# Altium footprint library KeebDeck.PcbLib: 1 footprints
Each footprint in its own frame and in the unit in brackets; x right, y up, seen from the top. Pads: shape width x height; smd on the part's side, far side on the other; paste and mask are expansions set on the pad; w line width, h text height; cw(c..) or ccw(c..) is an arc to the next point about the centre after c.
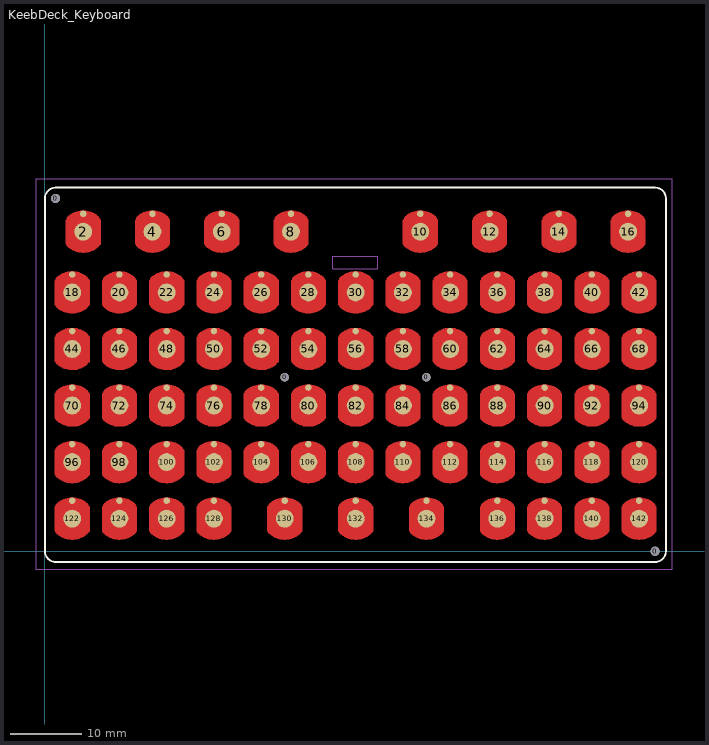
[diagram p0: the footprint, top view; thin cyan lines are the x and y axes]

## KeebDeck_Keyboard [mm]
height 4
pads (146):
  round 1.27 hole 1.27 unplated: 0(1.5,49.3) 0(85.25,0)
  round 1.2 hole 1.2: 0(33.5,24.31) 0(53.3,24.31)
  round 0.9 smd paste-2539.97: 1(5.349,47.151) 3(15.024,47.151) 5(24.699,47.151) 7(34.374,47.151) 9(52.449,47.151) 11(62.124,47.151) 13(71.799,47.151) 15(81.474,47.151) 17(3.809,38.661) 19(10.409,38.661) 21(17.009,38.661) 23(23.609,38.661) 25(30.209,38.661) 27(36.809,38.661) 29(43.409,38.661) 31(50.009,38.661) 33(56.609,38.661) 35(63.209,38.661) 37(69.809,38.661) 39(76.409,38.661) 41(83.009,38.661) 43(3.809,30.761) 45(10.409,30.761) 47(17.009,30.761) 49(23.609,30.761) 51(30.209,30.761) 53(36.809,30.761) 55(43.409,30.761) 57(50.009,30.761) 59(56.609,30.761) 61(63.209,30.761) 63(69.809,30.761) 65(76.409,30.761) 67(83.009,30.761) 69(3.809,22.861) 71(10.409,22.861) 73(17.009,22.861) 75(23.609,22.861) 77(30.209,22.861) 79(36.809,22.861) 81(43.409,22.861) 83(50.009,22.861) 85(56.609,22.861) 87(63.209,22.861) 89(69.809,22.861) 91(76.409,22.861) 93(83.009,22.861) 95(3.809,14.961) 97(10.409,14.961) 99(17.009,14.961) 101(23.609,14.961) 103(30.209,14.961) 105(36.809,14.961) 107(43.409,14.961) 109(50.009,14.961) 111(56.609,14.961) 113(63.209,14.961) 115(69.809,14.961) 117(76.409,14.961) 119(83.009,14.961) 121(3.809,7.061) 123(10.409,7.06) 125(17.009,7.06) 127(23.609,7.06) 129(33.509,7.06) 131(43.409,7.06) 133(53.309,7.06) 135(63.209,7.06) 137(69.809,7.06) 139(76.409,7.06) 141(83.009,7.06)
  round 2.5 smd paste-2539.97: 2(5.349,44.65) 4(15.024,44.65) 6(24.699,44.65) 8(34.374,44.65) 10(52.449,44.65) 12(62.124,44.65) 14(71.799,44.65) 16(81.474,44.65) 18(3.809,36.16) 20(10.409,36.16) 22(17.009,36.16) 24(23.609,36.16) 26(30.209,36.16) 28(36.809,36.16) 30(43.409,36.16) 32(50.009,36.16) 34(56.609,36.16) 36(63.209,36.16) 38(69.809,36.16) 40(76.409,36.16) 42(83.009,36.16) 44(3.809,28.26) 46(10.409,28.26) 48(17.009,28.26) 50(23.609,28.26) 52(30.209,28.26) 54(36.809,28.26) 56(43.409,28.26) 58(50.009,28.26) 60(56.609,28.26) 62(63.209,28.26) 64(69.809,28.26) 66(76.409,28.26) 68(83.009,28.26) 70(3.809,20.36) 72(10.409,20.36) 74(17.009,20.36) 76(23.609,20.36) 78(30.209,20.36) 80(36.809,20.36) 82(43.409,20.36) 84(50.009,20.36) 86(56.609,20.36) 88(63.209,20.36) 90(69.809,20.36) 92(76.409,20.36) 94(83.009,20.36) 96(3.809,12.46) 98(10.409,12.46) 100(17.009,12.46) 102(23.609,12.46) 104(30.209,12.46) 106(36.809,12.46) 108(43.409,12.46) 110(50.009,12.46) 112(56.609,12.46) 114(63.209,12.46) 116(69.809,12.46) 118(76.409,12.46) 120(83.009,12.46) 122(3.809,4.56) 124(10.409,4.559) 126(17.009,4.559) 128(23.609,4.559) 130(33.509,4.559) 132(43.409,4.559) 134(53.309,4.559) 136(63.209,4.559) 138(69.809,4.559) 140(76.409,4.559) 142(83.009,4.559)
Top Layer:
  pour cut-out: 2.925,42.95 2.925,46.275 3.575,46.925 7.175,46.925 7.775,46.325 7.775,42.9 7.5,42.625 3.125,42.625
  pour cut-out: 12.6,42.95 12.6,46.275 13.25,46.925 16.85,46.925 17.45,46.325 17.45,42.9 17.175,42.625 12.8,42.625
  pour cut-out: 22.275,42.95 22.275,46.275 22.925,46.925 26.525,46.925 27.125,46.325 27.125,42.9 26.85,42.625 22.475,42.625
  pour cut-out: 31.95,42.95 31.95,46.275 32.6,46.925 36.2,46.925 36.8,46.325 36.8,42.9 36.525,42.625 32.15,42.625
  pour cut-out: 50.025,42.95 50.025,46.275 50.675,46.925 54.275,46.925 54.875,46.325 54.875,42.9 54.6,42.625 50.225,42.625
  pour cut-out: 59.7,42.95 59.7,46.275 60.35,46.925 63.95,46.925 64.55,46.325 64.55,42.9 64.275,42.625 59.9,42.625
  pour cut-out: 69.375,42.95 69.375,46.275 70.025,46.925 73.625,46.925 74.225,46.325 74.225,42.9 73.95,42.625 69.575,42.625
  pour cut-out: 79.05,42.95 79.05,46.275 79.7,46.925 83.3,46.925 83.9,46.325 83.9,42.9 83.625,42.625 79.25,42.625
  pour cut-out: 1.385,34.46 1.385,37.785 2.035,38.435 5.635,38.435 6.235,37.835 6.235,34.41 5.96,34.135 1.585,34.135
  pour cut-out: 7.985,34.46 7.985,37.785 8.635,38.435 12.235,38.435 12.835,37.835 12.835,34.41 12.56,34.135 8.185,34.135
  pour cut-out: 14.585,34.46 14.585,37.785 15.235,38.435 18.835,38.435 19.435,37.835 19.435,34.41 19.16,34.135 14.785,34.135
  pour cut-out: 21.185,34.46 21.185,37.785 21.835,38.435 25.435,38.435 26.035,37.835 26.035,34.41 25.76,34.135 21.385,34.135
  pour cut-out: 27.785,34.46 27.785,37.785 28.435,38.435 32.035,38.435 32.635,37.835 32.635,34.41 32.36,34.135 27.985,34.135
  pour cut-out: 34.385,34.46 34.385,37.785 35.035,38.435 38.635,38.435 39.235,37.835 39.235,34.41 38.96,34.135 34.585,34.135
  pour cut-out: 40.985,34.46 40.985,37.785 41.635,38.435 45.235,38.435 45.835,37.835 45.835,34.41 45.56,34.135 41.185,34.135
  pour cut-out: 47.585,34.46 47.585,37.785 48.235,38.435 51.835,38.435 52.435,37.835 52.435,34.41 52.16,34.135 47.785,34.135
  pour cut-out: 54.185,34.46 54.185,37.785 54.835,38.435 58.435,38.435 59.035,37.835 59.035,34.41 58.76,34.135 54.385,34.135
  pour cut-out: 60.785,34.46 60.785,37.785 61.435,38.435 65.035,38.435 65.635,37.835 65.635,34.41 65.36,34.135 60.985,34.135
  pour cut-out: 67.385,34.46 67.385,37.785 68.035,38.435 71.635,38.435 72.235,37.835 72.235,34.41 71.96,34.135 67.585,34.135
  pour cut-out: 73.985,34.46 73.985,37.785 74.635,38.435 78.235,38.435 78.835,37.835 78.835,34.41 78.56,34.135 74.185,34.135
  pour cut-out: 80.585,34.46 80.585,37.785 81.235,38.435 84.835,38.435 85.435,37.835 85.435,34.41 85.16,34.135 80.785,34.135
  pour cut-out: 1.385,26.56 1.385,29.885 2.035,30.535 5.635,30.535 6.235,29.935 6.235,26.51 5.96,26.235 1.585,26.235
  pour cut-out: 7.985,26.56 7.985,29.885 8.635,30.535 12.235,30.535 12.835,29.935 12.835,26.51 12.56,26.235 8.185,26.235
  pour cut-out: 14.585,26.56 14.585,29.885 15.235,30.535 18.835,30.535 19.435,29.935 19.435,26.51 19.16,26.235 14.785,26.235
  pour cut-out: 21.185,26.56 21.185,29.885 21.835,30.535 25.435,30.535 26.035,29.935 26.035,26.51 25.76,26.235 21.385,26.235
  pour cut-out: 27.785,26.56 27.785,29.885 28.435,30.535 32.035,30.535 32.635,29.935 32.635,26.51 32.36,26.235 27.985,26.235
  pour cut-out: 34.385,26.56 34.385,29.885 35.035,30.535 38.635,30.535 39.235,29.935 39.235,26.51 38.96,26.235 34.585,26.235
  pour cut-out: 40.985,26.56 40.985,29.885 41.635,30.535 45.235,30.535 45.835,29.935 45.835,26.51 45.56,26.235 41.185,26.235
  pour cut-out: 47.585,26.56 47.585,29.885 48.235,30.535 51.835,30.535 52.435,29.935 52.435,26.51 52.16,26.235 47.785,26.235
  pour cut-out: 54.185,26.56 54.185,29.885 54.835,30.535 58.435,30.535 59.035,29.935 59.035,26.51 58.76,26.235 54.385,26.235
  pour cut-out: 60.785,26.56 60.785,29.885 61.435,30.535 65.035,30.535 65.635,29.935 65.635,26.51 65.36,26.235 60.985,26.235
  pour cut-out: 67.385,26.56 67.385,29.885 68.035,30.535 71.635,30.535 72.235,29.935 72.235,26.51 71.96,26.235 67.585,26.235
  pour cut-out: 73.985,26.56 73.985,29.885 74.635,30.535 78.235,30.535 78.835,29.935 78.835,26.51 78.56,26.235 74.185,26.235
  pour cut-out: 80.585,26.56 80.585,29.885 81.235,30.535 84.835,30.535 85.435,29.935 85.435,26.51 85.16,26.235 80.785,26.235
  pour cut-out: 1.385,18.66 1.385,21.985 2.035,22.635 5.635,22.635 6.235,22.035 6.235,18.61 5.96,18.335 1.585,18.335
  pour cut-out: 7.985,18.66 7.985,21.985 8.635,22.635 12.235,22.635 12.835,22.035 12.835,18.61 12.56,18.335 8.185,18.335
  pour cut-out: 14.585,18.66 14.585,21.985 15.235,22.635 18.835,22.635 19.435,22.035 19.435,18.61 19.16,18.335 14.785,18.335
  pour cut-out: 21.185,18.66 21.185,21.985 21.835,22.635 25.435,22.635 26.035,22.035 26.035,18.61 25.76,18.335 21.385,18.335
  pour cut-out: 27.785,18.66 27.785,21.985 28.435,22.635 32.035,22.635 32.635,22.035 32.635,18.61 32.36,18.335 27.985,18.335
  pour cut-out: 34.385,18.66 34.385,21.985 35.035,22.635 38.635,22.635 39.235,22.035 39.235,18.61 38.96,18.335 34.585,18.335
  pour cut-out: 40.985,18.66 40.985,21.985 41.635,22.635 45.235,22.635 45.835,22.035 45.835,18.61 45.56,18.335 41.185,18.335
  pour cut-out: 47.585,18.66 47.585,21.985 48.235,22.635 51.835,22.635 52.435,22.035 52.435,18.61 52.16,18.335 47.785,18.335
  pour cut-out: 54.185,18.66 54.185,21.985 54.835,22.635 58.435,22.635 59.035,22.035 59.035,18.61 58.76,18.335 54.385,18.335
  pour cut-out: 60.785,18.66 60.785,21.985 61.435,22.635 65.035,22.635 65.635,22.035 65.635,18.61 65.36,18.335 60.985,18.335
  pour cut-out: 67.385,18.66 67.385,21.985 68.035,22.635 71.635,22.635 72.235,22.035 72.235,18.61 71.96,18.335 67.585,18.335
  pour cut-out: 73.985,18.66 73.985,21.985 74.635,22.635 78.235,22.635 78.835,22.035 78.835,18.61 78.56,18.335 74.185,18.335
  pour cut-out: 80.585,18.66 80.585,21.985 81.235,22.635 84.835,22.635 85.435,22.035 85.435,18.61 85.16,18.335 80.785,18.335
  pour cut-out: 1.385,10.76 1.385,14.085 2.035,14.735 5.635,14.735 6.235,14.135 6.235,10.71 5.96,10.435 1.585,10.435
  pour cut-out: 7.985,10.76 7.985,14.085 8.635,14.735 12.235,14.735 12.835,14.135 12.835,10.71 12.56,10.435 8.185,10.435
  pour cut-out: 14.585,10.76 14.585,14.085 15.235,14.735 18.835,14.735 19.435,14.135 19.435,10.71 19.16,10.435 14.785,10.435
  pour cut-out: 21.185,10.76 21.185,14.085 21.835,14.735 25.435,14.735 26.035,14.135 26.035,10.71 25.76,10.435 21.385,10.435
  pour cut-out: 27.785,10.76 27.785,14.085 28.435,14.735 32.035,14.735 32.635,14.135 32.635,10.71 32.36,10.435 27.985,10.435
  pour cut-out: 34.385,10.76 34.385,14.085 35.035,14.735 38.635,14.735 39.235,14.135 39.235,10.71 38.96,10.435 34.585,10.435
  pour cut-out: 40.985,10.76 40.985,14.085 41.635,14.735 45.235,14.735 45.835,14.135 45.835,10.71 45.56,10.435 41.185,10.435
  pour cut-out: 47.585,10.76 47.585,14.085 48.235,14.735 51.835,14.735 52.435,14.135 52.435,10.71 52.16,10.435 47.785,10.435
  pour cut-out: 54.185,10.76 54.185,14.085 54.835,14.735 58.435,14.735 59.035,14.135 59.035,10.71 58.76,10.435 54.385,10.435
  pour cut-out: 60.785,10.76 60.785,14.085 61.435,14.735 65.035,14.735 65.635,14.135 65.635,10.71 65.36,10.435 60.985,10.435
  pour cut-out: 67.385,10.76 67.385,14.085 68.035,14.735 71.635,14.735 72.235,14.135 72.235,10.71 71.96,10.435 67.585,10.435
  pour cut-out: 73.985,10.76 73.985,14.085 74.635,14.735 78.235,14.735 78.835,14.135 78.835,10.71 78.56,10.435 74.185,10.435
  pour cut-out: 80.585,10.76 80.585,14.085 81.235,14.735 84.835,14.735 85.435,14.135 85.435,10.71 85.16,10.435 80.785,10.435
  pour cut-out: 1.385,2.86 1.385,6.185 2.035,6.835 5.635,6.835 6.235,6.235 6.235,2.81 5.96,2.535 1.585,2.535
  pour cut-out: 7.985,2.86 7.985,6.185 8.635,6.835 12.235,6.835 12.835,6.235 12.835,2.81 12.56,2.535 8.185,2.535
  pour cut-out: 14.585,2.86 14.585,6.185 15.235,6.835 18.835,6.835 19.435,6.235 19.435,2.81 19.16,2.535 14.785,2.535
  pour cut-out: 21.185,2.86 21.185,6.185 21.835,6.835 25.435,6.835 26.035,6.235 26.035,2.81 25.76,2.535 21.385,2.535
  pour cut-out: 40.985,2.86 40.985,6.185 41.635,6.835 45.235,6.835 45.835,6.235 45.835,2.81 45.56,2.535 41.185,2.535
  pour cut-out: 60.785,2.86 60.785,6.185 61.435,6.835 65.035,6.835 65.635,6.235 65.635,2.81 65.36,2.535 60.985,2.535
  pour cut-out: 67.385,2.86 67.385,6.185 68.035,6.835 71.635,6.835 72.235,6.235 72.235,2.81 71.96,2.535 67.585,2.535
  pour cut-out: 73.985,2.86 73.985,6.185 74.635,6.835 78.235,6.835 78.835,6.235 78.835,2.81 78.56,2.535 74.185,2.535
  pour cut-out: 80.585,2.86 80.585,6.185 81.235,6.835 84.835,6.835 85.435,6.235 85.435,2.81 85.16,2.535 80.785,2.535
  pour cut-out: 50.885,2.86 50.885,6.185 51.535,6.835 55.135,6.835 55.735,6.235 55.735,2.81 55.46,2.535 51.085,2.535
  pour cut-out: 40.985,2.86 40.985,6.185 41.635,6.835 45.235,6.835 45.835,6.235 45.835,2.81 45.56,2.535 41.185,2.535
  pour cut-out: 31.085,2.86 31.085,6.185 31.735,6.835 35.335,6.835 35.935,6.235 35.935,2.81 35.66,2.535 31.285,2.535
  lines w0.9: 1.944,2.76 ccw(c3.809,4.853) 5.657,2.746 ; 1.944,10.66 ccw(c3.809,12.753) 5.657,10.646 ; 1.944,18.56 ccw(c3.809,20.653) 5.657,18.546 ; 1.944,26.46 ccw(c3.809,28.553) 5.657,26.446 ; 1.944,34.36 ccw(c3.809,36.453) 5.657,34.346 ; 1.958,6.374 cw(c3.806,4.267) 5.671,6.36 ; 1.958,14.274 cw(c3.806,12.167) 5.671,14.26 ; 1.958,22.174 cw(c3.806,20.067) 5.671,22.16 ; 1.958,30.074 cw(c3.806,27.967) 5.671,30.06 ; 1.958,37.974 cw(c3.806,35.867) 5.671,37.96 ; 3.484,42.85 ccw(c5.349,44.943) 7.197,42.836 ; 3.498,46.464 cw(c5.346,44.357) 7.211,46.45 ; 8.544,2.759 ccw(c10.409,4.852) 12.257,2.745 ; 8.544,10.66 ccw(c10.409,12.753) 12.257,10.646 ; 8.544,18.56 ccw(c10.409,20.653) 12.257,18.546 ; 8.544,26.46 ccw(c10.409,28.553) 12.257,26.446 ; 8.544,34.36 ccw(c10.409,36.453) 12.257,34.346 ; 8.558,6.373 cw(c10.406,4.266) 12.271,6.359 ; 8.557,14.274 cw(c10.406,12.167) 12.271,14.26 ; 8.557,22.174 cw(c10.406,20.067) 12.271,22.16 ; 8.557,30.074 cw(c10.406,27.967) 12.271,30.06 ; 8.557,37.974 cw(c10.406,35.867) 12.271,37.96 ; 13.159,42.85 ccw(c15.024,44.943) 16.872,42.836 ; 13.173,46.464 cw(c15.021,44.357) 16.886,46.45 ; 15.144,2.759 ccw(c17.009,4.852) 18.857,2.745 ; 15.144,10.66 ccw(c17.009,12.753) 18.857,10.646 ; 15.144,18.56 ccw(c17.009,20.653) 18.857,18.546 ; 15.144,26.46 ccw(c17.009,28.553) 18.857,26.446 ; 15.144,34.36 ccw(c17.009,36.453) 18.857,34.346 ; 15.158,6.373 cw(c17.006,4.266) 18.871,6.359 ; 15.157,14.274 cw(c17.006,12.167) 18.871,14.26 ; 15.157,22.174 cw(c17.006,20.067) 18.871,22.16 ; 15.157,30.074 cw(c17.006,27.967) 18.871,30.06 ; 15.157,37.974 cw(c17.006,35.867) 18.871,37.96 ; 21.744,2.759 ccw(c23.609,4.852) 25.457,2.745 ; 21.744,10.66 ccw(c23.609,12.753) 25.457,10.646 ; 21.744,18.56 ccw(c23.609,20.653) 25.457,18.546 ; 21.744,26.46 ccw(c23.609,28.553) 25.457,26.446 ; 21.744,34.36 ccw(c23.609,36.453) 25.457,34.346 ; 21.758,6.373 cw(c23.606,4.266) 25.471,6.359 ; 21.758,14.274 cw(c23.606,12.167) 25.471,14.26 ; 21.758,22.174 cw(c23.606,20.067) 25.471,22.16 ; 21.758,30.074 cw(c23.606,27.967) 25.471,30.06 ; 21.758,37.974 cw(c23.606,35.867) 25.471,37.96 ; 22.834,42.85 ccw(c24.699,44.943) 26.547,42.836 ; 22.848,46.464 cw(c24.696,44.357) 26.561,46.45 ; 28.344,10.66 ccw(c30.209,12.753) 32.057,10.646 ; 28.344,18.56 ccw(c30.209,20.653) 32.057,18.546 ; 28.344,26.46 ccw(c30.209,28.553) 32.057,26.446 ; 28.344,34.36 ccw(c30.209,36.453) 32.057,34.346 ; 28.358,14.274 cw(c30.206,12.167) 32.071,14.26 ; 28.358,22.174 cw(c30.206,20.067) 32.071,22.16 ; 28.358,30.074 cw(c30.206,27.967) 32.071,30.06 ; 28.358,37.974 cw(c30.206,35.867) 32.071,37.96 ; 31.644,2.759 ccw(c33.509,4.852) 35.357,2.745 ; 31.658,6.373 cw(c33.506,4.266) 35.371,6.359 ; 32.509,42.85 ccw(c34.374,44.943) 36.222,42.836 ; 32.523,46.464 cw(c34.371,44.357) 36.236,46.45 ; 34.944,10.66 ccw(c36.809,12.753) 38.657,10.646 ; 34.944,18.56 ccw(c36.809,20.653) 38.657,18.546 ; 34.944,26.46 ccw(c36.809,28.553) 38.657,26.446 ; 34.944,34.36 ccw(c36.809,36.453) 38.657,34.346 ; 34.958,14.274 cw(c36.806,12.167) 38.671,14.26 ; 34.958,22.174 cw(c36.806,20.067) 38.671,22.16 ; 34.958,30.074 cw(c36.806,27.967) 38.671,30.06 ; 34.958,37.974 cw(c36.806,35.867) 38.671,37.96 ; 41.544,2.759 ccw(c43.409,4.852) 45.257,2.745 ; 41.544,10.66 ccw(c43.409,12.753) 45.257,10.646 ; 41.544,18.56 ccw(c43.409,20.653) 45.257,18.546 ; 41.544,26.46 ccw(c43.409,28.553) 45.257,26.446 ; 41.544,34.36 ccw(c43.409,36.453) 45.257,34.346 ; 41.558,6.373 cw(c43.406,4.266) 45.271,6.359 ; 41.557,14.274 cw(c43.406,12.167) 45.271,14.26 ; 41.557,22.174 cw(c43.406,20.067) 45.271,22.16 ; 41.557,30.074 cw(c43.406,27.967) 45.271,30.06 ; 41.557,37.974 cw(c43.406,35.867) 45.271,37.96 ; 48.144,10.66 ccw(c50.009,12.753) 51.857,10.646 ; 48.144,18.56 ccw(c50.009,20.653) 51.857,18.546 ; 48.144,26.46 ccw(c50.009,28.553) 51.857,26.446 ; 48.144,34.36 ccw(c50.009,36.453) 51.857,34.346 ; 48.158,14.274 cw(c50.006,12.167) 51.871,14.26 ; 48.158,22.174 cw(c50.006,20.067) 51.871,22.16 ; 48.158,30.074 cw(c50.006,27.967) 51.871,30.06 ; 48.158,37.974 cw(c50.006,35.867) 51.871,37.96 ; 50.584,42.85 ccw(c52.449,44.943) 54.297,42.836 ; 50.598,46.464 cw(c52.446,44.357) 54.311,46.45 ; 51.444,2.759 ccw(c53.309,4.852) 55.157,2.745 ; 51.458,6.373 cw(c53.306,4.266) 55.171,6.359 ; 54.744,10.66 ccw(c56.609,12.753) 58.457,10.646 ; 54.744,18.56 ccw(c56.609,20.653) 58.457,18.546 ; 54.744,26.46 ccw(c56.609,28.553) 58.457,26.446 ; 54.744,34.36 ccw(c56.609,36.453) 58.457,34.346 ; 54.758,14.274 cw(c56.606,12.167) 58.471,14.26 ; 54.758,22.174 cw(c56.606,20.067) 58.471,22.16 ; 54.758,30.074 cw(c56.606,27.967) 58.471,30.06 ; 54.758,37.974 cw(c56.606,35.867) 58.471,37.96 ; 60.259,42.85 ccw(c62.124,44.943) 63.973,42.836 ; 60.273,46.464 cw(c62.121,44.357) 63.986,46.45 ; 61.344,2.759 ccw(c63.209,4.852) 65.057,2.745 ; 61.344,10.66 ccw(c63.209,12.753) 65.057,10.646 ; 61.344,18.56 ccw(c63.209,20.653) 65.057,18.546 ; 61.344,26.46 ccw(c63.209,28.553) 65.057,26.446 ; 61.344,34.36 ccw(c63.209,36.453) 65.057,34.346 ; 61.358,6.373 cw(c63.206,4.266) 65.071,6.359 ; 61.358,14.274 cw(c63.206,12.167) 65.071,14.26 ; 61.358,22.174 cw(c63.206,20.067) 65.071,22.16 ; 61.358,30.074 cw(c63.206,27.967) 65.071,30.06 ; 61.358,37.974 cw(c63.206,35.867) 65.071,37.96 ; 67.944,2.759 ccw(c69.809,4.852) 71.657,2.745 ; 67.944,10.66 ccw(c69.809,12.753) 71.657,10.646 ; 67.944,18.56 ccw(c69.809,20.653) 71.657,18.546 ; 67.944,26.46 ccw(c69.809,28.553) 71.657,26.446 ; 67.944,34.36 ccw(c69.809,36.453) 71.657,34.346 ; 67.958,6.373 cw(c69.806,4.266) 71.671,6.359 ; 67.958,14.274 cw(c69.806,12.167) 71.671,14.26 ; 67.958,22.174 cw(c69.806,20.067) 71.671,22.16 ; 67.958,30.074 cw(c69.806,27.967) 71.671,30.06 ; 67.958,37.974 cw(c69.806,35.867) 71.671,37.96 ; 69.934,42.85 ccw(c71.799,44.943) 73.647,42.836 ; 69.948,46.464 cw(c71.796,44.357) 73.661,46.45 ; 74.544,2.759 ccw(c76.409,4.852) 78.257,2.745 ; 74.544,10.66 ccw(c76.409,12.753) 78.257,10.646 ; 74.544,18.56 ccw(c76.409,20.653) 78.257,18.546 ; 74.544,26.46 ccw(c76.409,28.553) 78.257,26.446 ; 74.544,34.36 ccw(c76.409,36.453) 78.257,34.346 ; 74.558,6.373 cw(c76.406,4.266) 78.271,6.359 ; 74.558,14.274 cw(c76.406,12.167) 78.271,14.26 ; 74.558,22.174 cw(c76.406,20.067) 78.271,22.16 ; 74.558,30.074 cw(c76.406,27.967) 78.271,30.06 ; 74.558,37.974 cw(c76.406,35.867) 78.271,37.96 ; 79.609,42.85 ccw(c81.474,44.943) 83.322,42.836 ; 79.623,46.464 cw(c81.471,44.357) 83.336,46.45 ; 81.144,2.759 ccw(c83.009,4.852) 84.857,2.745 ; 81.144,10.66 ccw(c83.009,12.753) 84.857,10.646 ; 81.144,18.56 ccw(c83.009,20.653) 84.857,18.546 ; 81.144,26.46 ccw(c83.009,28.553) 84.857,26.446 ; 81.144,34.36 ccw(c83.009,36.453) 84.857,34.346 ; 81.158,6.373 cw(c83.006,4.266) 84.871,6.359 ; 81.158,14.274 cw(c83.006,12.167) 84.871,14.26 ; 81.158,22.174 cw(c83.006,20.067) 84.871,22.16 ; 81.158,30.074 cw(c83.006,27.967) 84.871,30.06 ; 81.158,37.974 cw(c83.006,35.867) 84.871,37.96
Top Overlay:
  lines w0.254: 86.75,49.3 ccw(c85.25,49.3) 85.25,50.8 1.5,50.8 ccw(c1.5,49.3) 0,49.3 0.007,0 ccw(c1.508,0) 1.507,-1.5 85.25,-1.5 ccw(c85.25,0) 86.75,0 86.757,49.3
Top Solder:
  drawing of 71 lines, arcs and shapes, not listed
Mechanical 7:
  lines w0.15: -1.27,-2.54 87.63,-2.54 87.63,52.07 -1.27,52.07 -1.27,-2.54
Mechanical 13:
  lines w0.1: 40.2,39.5 46.5,39.5 46.5,41.2 40.2,41.2 40.2,39.5
  text ".Designator" at 39.452,24.577 h1
3D body "keyboard.step": height 4.95, standoff 0.5, extent 0.479,0.5 86.279,49.1
3D body "dome_sheet.step": height 0.6, standoff 0.3, extent 0.004,-1.5 86.754,50.8
3D body "Metal_Dome_Oval_5mm.step": height 0.26, standoff 0, extent 1.959,1.979 5.659,7.203
3D body "Metal_Dome_Oval_5mm.step": height 0.26, standoff 0, extent 8.559,1.978 12.259,7.202
3D body "Metal_Dome_Oval_5mm.step": height 0.26, standoff 0, extent 15.159,1.978 18.859,7.202
3D body "Metal_Dome_Oval_5mm.step": height 0.26, standoff 0, extent 21.759,1.978 25.459,7.202
3D body "Metal_Dome_Oval_5mm.step": height 0.26, standoff 0, extent 31.659,1.978 35.359,7.202
3D body "Metal_Dome_Oval_5mm.step": height 0.26, standoff 0, extent 41.559,1.978 45.259,7.202
3D body "Metal_Dome_Oval_5mm.step": height 0.26, standoff 0, extent 51.459,1.978 55.159,7.202
3D body "Metal_Dome_Oval_5mm.step": height 0.26, standoff 0, extent 61.359,1.978 65.059,7.202
3D body "Metal_Dome_Oval_5mm.step": height 0.26, standoff 0, extent 67.959,1.978 71.659,7.202
3D body "Metal_Dome_Oval_5mm.step": height 0.26, standoff 0, extent 74.559,1.978 78.259,7.202
3D body "Metal_Dome_Oval_5mm.step": height 0.26, standoff 0, extent 81.159,1.978 84.859,7.202
3D body "Metal_Dome_Oval_5mm.step": height 0.26, standoff 0, extent 61.359,9.879 65.059,15.103
3D body "Metal_Dome_Oval_5mm.step": height 0.26, standoff 0, extent 67.959,9.879 71.659,15.103
3D body "Metal_Dome_Oval_5mm.step": height 0.26, standoff 0, extent 74.559,9.879 78.259,15.103
3D body "Metal_Dome_Oval_5mm.step": height 0.26, standoff 0, extent 81.159,9.879 84.859,15.103
3D body "Metal_Dome_Oval_5mm.step": height 0.26, standoff 0, extent 34.959,9.879 38.659,15.103
3D body "Metal_Dome_Oval_5mm.step": height 0.26, standoff 0, extent 41.559,9.879 45.259,15.103
3D body "Metal_Dome_Oval_5mm.step": height 0.26, standoff 0, extent 48.159,9.879 51.859,15.103
3D body "Metal_Dome_Oval_5mm.step": height 0.26, standoff 0, extent 54.759,9.879 58.459,15.103
3D body "Metal_Dome_Oval_5mm.step": height 0.26, standoff 0, extent 8.559,9.879 12.259,15.103
3D body "Metal_Dome_Oval_5mm.step": height 0.26, standoff 0, extent 15.159,9.879 18.859,15.103
3D body "Metal_Dome_Oval_5mm.step": height 0.26, standoff 0, extent 21.759,9.879 25.459,15.103
3D body "Metal_Dome_Oval_5mm.step": height 0.26, standoff 0, extent 28.359,9.879 32.059,15.103
3D body "Metal_Dome_Oval_5mm.step": height 0.26, standoff 0, extent 1.959,9.879 5.659,15.103
3D body "Metal_Dome_Oval_5mm.step": height 0.26, standoff 0, extent 61.359,17.779 65.059,23.003
3D body "Metal_Dome_Oval_5mm.step": height 0.26, standoff 0, extent 67.959,17.779 71.659,23.003
3D body "Metal_Dome_Oval_5mm.step": height 0.26, standoff 0, extent 74.559,17.779 78.259,23.003
3D body "Metal_Dome_Oval_5mm.step": height 0.26, standoff 0, extent 81.159,17.779 84.859,23.003
3D body "Metal_Dome_Oval_5mm.step": height 0.26, standoff 0, extent 34.959,17.779 38.659,23.003
3D body "Metal_Dome_Oval_5mm.step": height 0.26, standoff 0, extent 41.559,17.779 45.259,23.003
3D body "Metal_Dome_Oval_5mm.step": height 0.26, standoff 0, extent 48.159,17.779 51.859,23.003
3D body "Metal_Dome_Oval_5mm.step": height 0.26, standoff 0, extent 54.759,17.779 58.459,23.003
3D body "Metal_Dome_Oval_5mm.step": height 0.26, standoff 0, extent 8.559,17.779 12.259,23.003
3D body "Metal_Dome_Oval_5mm.step": height 0.26, standoff 0, extent 15.159,17.779 18.859,23.003
3D body "Metal_Dome_Oval_5mm.step": height 0.26, standoff 0, extent 21.759,17.779 25.459,23.003
3D body "Metal_Dome_Oval_5mm.step": height 0.26, standoff 0, extent 28.359,17.779 32.059,23.003
3D body "Metal_Dome_Oval_5mm.step": height 0.26, standoff 0, extent 1.959,17.779 5.659,23.003
3D body "Metal_Dome_Oval_5mm.step": height 0.26, standoff 0, extent 61.359,25.679 65.059,30.903
3D body "Metal_Dome_Oval_5mm.step": height 0.26, standoff 0, extent 67.959,25.679 71.659,30.903
3D body "Metal_Dome_Oval_5mm.step": height 0.26, standoff 0, extent 74.559,25.679 78.259,30.903
3D body "Metal_Dome_Oval_5mm.step": height 0.26, standoff 0, extent 81.159,25.679 84.859,30.903
3D body "Metal_Dome_Oval_5mm.step": height 0.26, standoff 0, extent 34.959,25.679 38.659,30.903
3D body "Metal_Dome_Oval_5mm.step": height 0.26, standoff 0, extent 41.559,25.679 45.259,30.903
3D body "Metal_Dome_Oval_5mm.step": height 0.26, standoff 0, extent 48.159,25.679 51.859,30.903
3D body "Metal_Dome_Oval_5mm.step": height 0.26, standoff 0, extent 54.759,25.679 58.459,30.903
3D body "Metal_Dome_Oval_5mm.step": height 0.26, standoff 0, extent 8.559,25.679 12.259,30.903
3D body "Metal_Dome_Oval_5mm.step": height 0.26, standoff 0, extent 15.159,25.679 18.859,30.903
3D body "Metal_Dome_Oval_5mm.step": height 0.26, standoff 0, extent 21.759,25.679 25.459,30.903
3D body "Metal_Dome_Oval_5mm.step": height 0.26, standoff 0, extent 28.359,25.679 32.059,30.903
3D body "Metal_Dome_Oval_5mm.step": height 0.26, standoff 0, extent 1.959,25.679 5.659,30.903
3D body "Metal_Dome_Oval_5mm.step": height 0.26, standoff 0, extent 61.359,33.579 65.059,38.803
3D body "Metal_Dome_Oval_5mm.step": height 0.26, standoff 0, extent 67.959,33.579 71.659,38.803
3D body "Metal_Dome_Oval_5mm.step": height 0.26, standoff 0, extent 74.559,33.579 78.259,38.803
3D body "Metal_Dome_Oval_5mm.step": height 0.26, standoff 0, extent 81.159,33.579 84.859,38.803
3D body "Metal_Dome_Oval_5mm.step": height 0.26, standoff 0, extent 34.959,33.579 38.659,38.803
3D body "Metal_Dome_Oval_5mm.step": height 0.26, standoff 0, extent 41.559,33.579 45.259,38.803
3D body "Metal_Dome_Oval_5mm.step": height 0.26, standoff 0, extent 48.159,33.579 51.859,38.803
3D body "Metal_Dome_Oval_5mm.step": height 0.26, standoff 0, extent 54.759,33.579 58.459,38.803
3D body "Metal_Dome_Oval_5mm.step": height 0.26, standoff 0, extent 8.559,33.579 12.259,38.803
3D body "Metal_Dome_Oval_5mm.step": height 0.26, standoff 0, extent 15.159,33.579 18.859,38.803
3D body "Metal_Dome_Oval_5mm.step": height 0.26, standoff 0, extent 21.759,33.579 25.459,38.803
3D body "Metal_Dome_Oval_5mm.step": height 0.26, standoff 0, extent 28.359,33.579 32.059,38.803
3D body "Metal_Dome_Oval_5mm.step": height 0.26, standoff 0, extent 1.959,33.579 5.659,38.803
3D body "Metal_Dome_Oval_5mm.step": height 0.26, standoff 0, extent 79.624,42.069 83.324,47.293
3D body "Metal_Dome_Oval_5mm.step": height 0.26, standoff 0, extent 69.949,42.069 73.649,47.293
3D body "Metal_Dome_Oval_5mm.step": height 0.26, standoff 0, extent 60.274,42.069 63.974,47.293
3D body "Metal_Dome_Oval_5mm.step": height 0.26, standoff 0, extent 50.599,42.069 54.299,47.293
3D body "Metal_Dome_Oval_5mm.step": height 0.26, standoff 0, extent 32.524,42.069 36.224,47.293
3D body "Metal_Dome_Oval_5mm.step": height 0.26, standoff 0, extent 22.849,42.069 26.549,47.293
3D body "Metal_Dome_Oval_5mm.step": height 0.26, standoff 0, extent 13.174,42.069 16.874,47.293
3D body "Metal_Dome_Oval_5mm.step": height 0.26, standoff 0, extent 3.499,42.069 7.199,47.293